# Altium footprint library SOT23.PcbLib: 1 footprints
Each footprint in its own frame and in the unit in brackets; x right, y up, seen from the top. Pads: shape width x height; smd on the part's side, far side on the other; paste and mask are expansions set on the pad; w line width, h text height; cw(c..) or ccw(c..) is an arc to the next point about the centre after c.
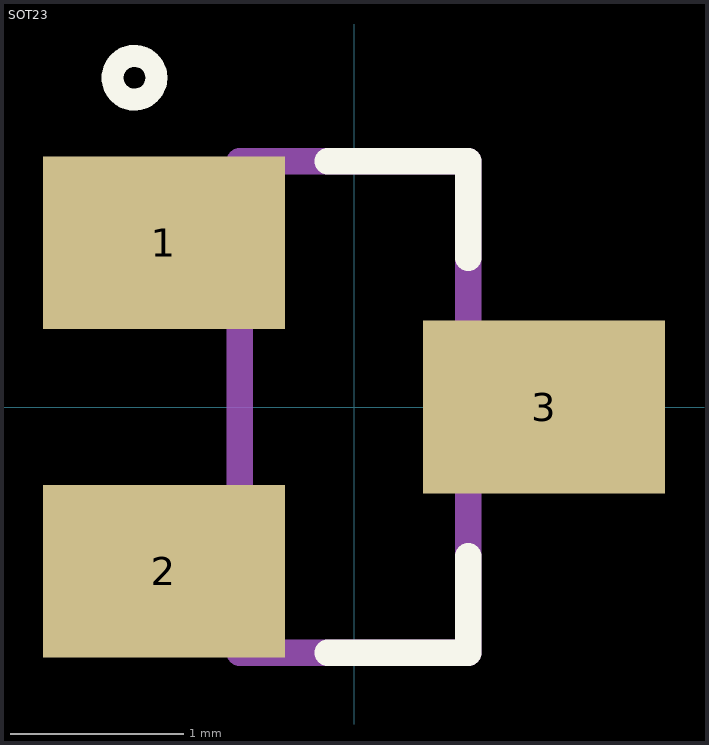
[diagram p0: the footprint, top view; thin cyan lines are the x and y axes]

## SOT23 [mm]
pads (3):
  rect 1.4x1 smd: 1(-1.1,0.95) 2(-1.1,-0.95) 3(1.1,0)
Top Overlay:
  circle w0.127: c-1.27,1.905 r0.127
  lines w0.152: -0.152,-1.422 0.66,-1.422 0.66,-0.864 ; -0.152,1.422 0.66,1.422 0.66,0.864
Mechanical 13:
  region: -0.775,0.649 -1.234,0.649 -1.234,1.232 -0.775,1.232
  region: -0.775,-1.234 -1.234,-1.234 -1.234,-0.648 -0.775,-0.648
  region: 1.232,-0.292 0.775,-0.292 0.775,0.292 1.232,0.292
  lines w0.152: -0.66,-1.422 -0.66,1.422 0.66,1.422 0.66,-1.422 -0.66,-1.422